# Altium schematic symbol library CONSMA022-G.SchLib: 1 symbol
Pins are listed as number, name and electrical type; pins without a type are passive.

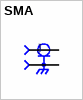
[diagram p0: symbol SMA]

## SMA
designator J
footprint CONSMA022-G (Footprint taken from TE website (SamacSys lib) and pin shrinked to 5.181mil (my 50ohm trace width))
footprint CONSMA022-G (Footprint taken from TE website (SamacSys lib) and pin shrinked to 5.181mil (my 50ohm trace width))
pins: 0 GND, 1 S